# Altium schematic symbol library BMI323.SchLib: 2 symbols
Pins are listed as number, name and electrical type; pins without a type are passive.

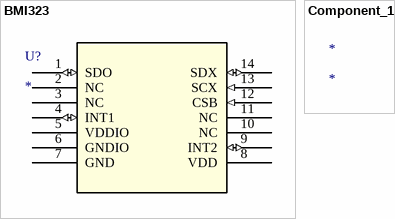
[diagram p0: symbols BMI323 to Component_1]

## BMI323
designator U?
No Description Available; Mfr_Name: Bosch Sensortec; RefDes: RefDes; Type: Type
footprint BMI323_BOS
pins: 1 SDO (io), 2 NC, 3 NC, 4 INT1 (io), 5 VDDIO (power), 6 GNDIO (power), 7 GND (power), 8 VDD (power), 9 INT2 (io), 10 NC, 11 NC, 12 CSB (in), 13 SCX (in), 14 SDX (io)

## Component_1
designator *